# Altium footprint library SOT-23-6.PcbLib: 1 footprints
Each footprint in its own frame and in the unit in brackets; x right, y up, seen from the top. Pads: shape width x height; smd on the part's side, far side on the other; paste and mask are expansions set on the pad; w line width, h text height; cw(c..) or ccw(c..) is an arc to the next point about the centre after c.
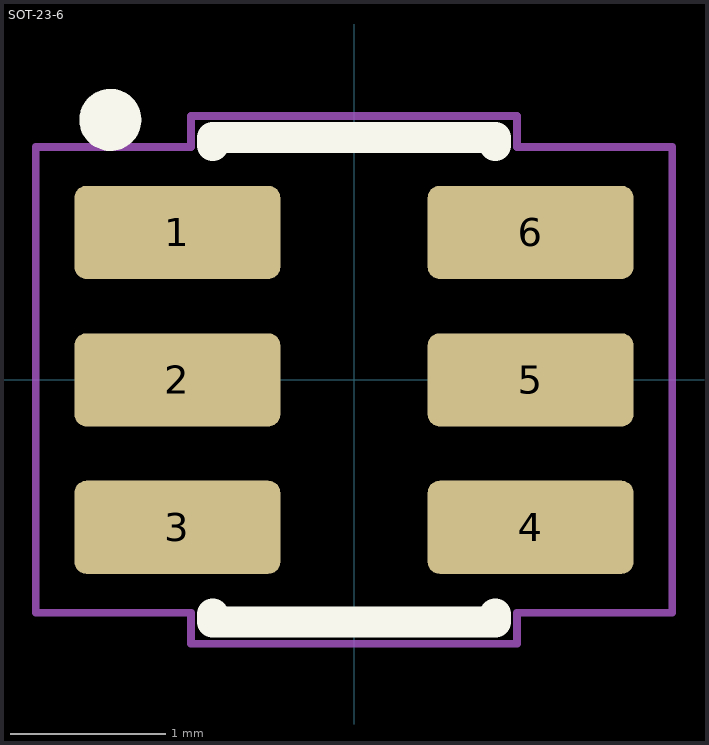
[diagram p0: the footprint, top view; thin cyan lines are the x and y axes]

## SOT-23-6 [mm]
pads (6):
  rrect25% 1.325x0.6 smd: 1(-1.138,0.95) 2(-1.138,0) 3(-1.138,-0.95) 4(1.138,-0.95) 5(1.138,0) 6(1.138,0.95)
F.SilkS:
  circle w0.2: c-1.57,1.675 r0.1
  lines w0.2: -0.91,-1.51 -0.91,-1.56 0.91,-1.56 0.91,-1.51 ; -0.91,1.51 -0.91,1.56 0.91,1.56 0.91,1.51
F.CrtYd:
  lines w0.05: -2.05,-1.5 -1.05,-1.5 -1.05,-1.7 1.05,-1.7 1.05,-1.5 2.05,-1.5 2.05,1.5 1.05,1.5 1.05,1.7 -1.05,1.7 -1.05,1.5 -2.05,1.5 -2.05,-1.5
3D body "SOT23-6.step": height 1.3, standoff 0, extent -1.5,-1.5 1.5,1.5